# EAGLE library part SPF_PROMICRO (library dl9sec_public)
Sparkfun Pro Micro 3V3: https://www.sparkfun.com/products/12587 5V: https://www.sparkfun.com/products/12640
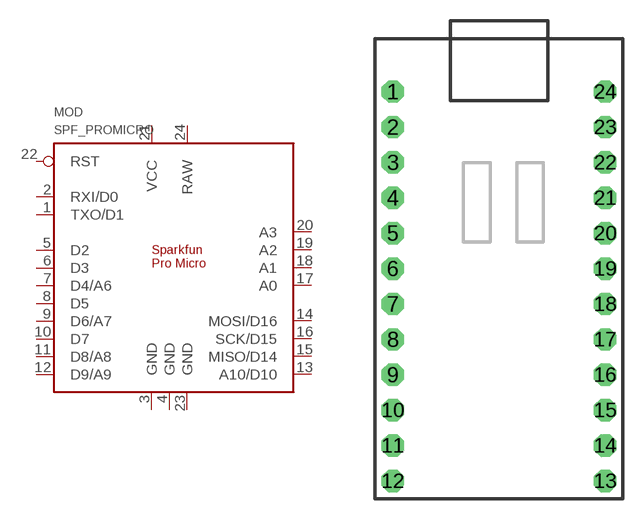
[diagram p4: symbol with the pads of SPF_PROMICRO; footprint SPF_PROMICRO]

Designator prefix MOD

## SPF_PROMICRO_3V3  [SPF_PROMICRO]
1  TXO/D1
2  RXI/D0
3  GND  pwr
4  GND  pwr
5  D2
6  D3
7  D4/A6
8  D5
9  D6/A7
10  D7
11  D8/A8
12  D9/A9
13  A10/D10
14  MOSI/D16
15  MISO/D14
16  SCK/D15
17  A0  in
18  A1  in
19  A2  in
20  A3  in
21  VCC  pwr
22  RST  in
23  GND  pwr
24  RAW  pwr

## SPF_PROMICRO_5V0  [SPF_PROMICRO]
Pads as for SPF_PROMICRO

## Footprint SPF_PROMICRO (pad centres in mm)
Sparkfun Pro Micro https://www.sparkfun.com/products/12587 https://www.sparkfun.com/products/12640
drill 0.8 pad 1.6 octagon: 1 1.27,29.21; 2 1.27,26.67; 3 1.27,24.13; 4 1.27,21.59; 5 1.27,19.05; 6 1.27,16.51; 7 1.27,13.97; 8 1.27,11.43; 9 1.27,8.89; 10 1.27,6.35; 11 1.27,3.81; 12 1.27,1.27; 13 16.51,1.27; 14 16.51,3.81; 15 16.51,6.35; 16 16.51,8.89; 17 16.51,11.43; 18 16.51,13.97; 19 16.51,16.51; 20 16.51,19.05; 21 16.51,21.59; 22 16.51,24.13; 23 16.51,26.67; 24 16.51,29.21